# EAGLE library part 940-44-084-24-000000 (library SamacSys_Parts)
MILL MAX - 940-44-084-24-000000 - PLCC SOCKET, 84 POSITION, THROUGH HOLE VERTICAL Source: Datasheet <https://www.mill-max.com/products/datasheet/sockets/940-44-084-24-000000>
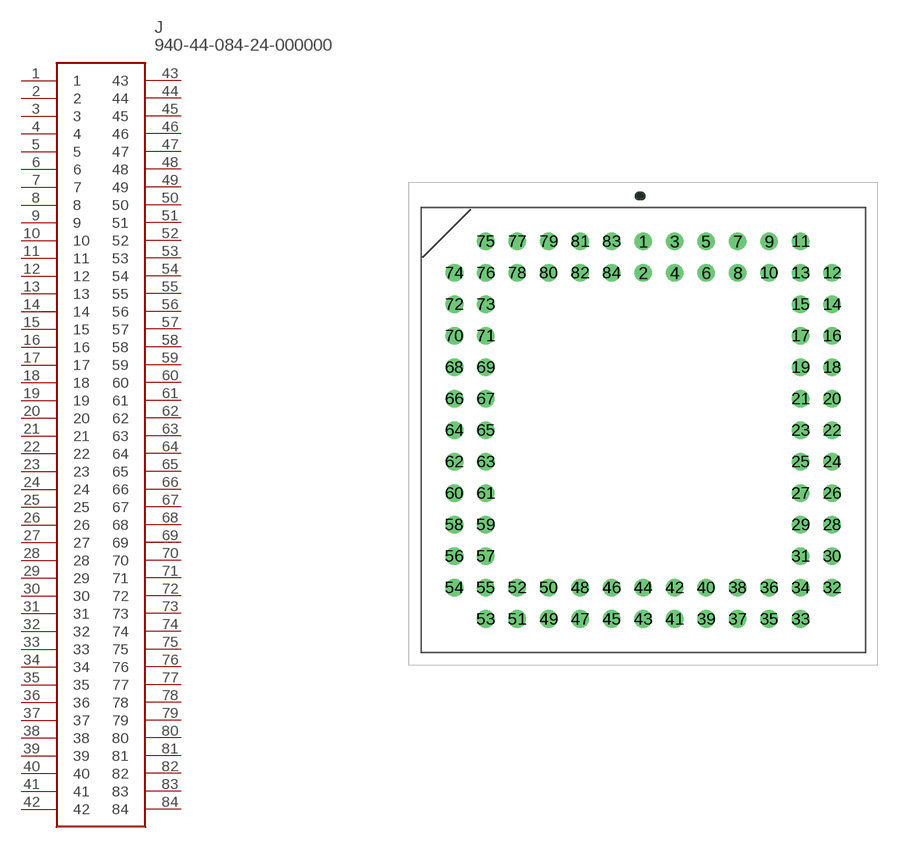
[diagram p200: symbol with the pads of 9404408424000000; footprint 9404408424000000]

Designator prefix J

## 940-44-084-24-000000 (DESCRIPTION: MILL MAX - 940-44-084-24-000000 - PLCC SOCKET, 84 POSITION, THROUGH HOLE VERTICAL; HEIGHT: 8.255mm; MANUFACTURER_NAME: Mill-Max; MANUFACTURER_PART_NUMBER: 940-44-084-24-000000; MOUSER_PART_NUMBER: 575-948424; MOUSER_PRICE-STOCK: https://www.mouser.co.uk/ProductDetail/Mill-Max/940-44-084-24-000000?qs=kJUkXSjFC7xDiE1179Hraw%3D%3D)  [9404408424000000]
1  1
2  2
3  3
4  4
5  5
6  6
7  7
8  8
9  9
10  10
11  11
12  12
13  13
14  14
15  15
16  16
17  17
18  18
19  19
20  20
21  21
22  22
23  23
24  24
25  25
26  26
27  27
28  28
29  29
30  30
31  31
32  32
33  33
34  34
35  35
36  36
37  37
38  38
39  39
40  40
41  41
42  42
43  43
44  44
45  45
46  46
47  47
48  48
49  49
50  50
51  51
52  52
53  53
54  54
55  55
56  56
57  57
58  58
59  59
60  60
61  61
62  62
63  63
64  64
65  65
66  66
67  67
68  68
69  69
70  70
71  71
72  72
73  73
74  74
75  75
76  76
77  77
78  78
79  79
80  80
81  81
82  82
83  83
84  84

## Footprint 9404408424000000 (pad centres in mm)
940-44-084-24-000000-1
drill 0.889 pad 1.445: 1 0,0; 2 0,-2.54; 3 2.54,0; 4 2.54,-2.54; 5 5.08,0; 6 5.08,-2.54; 7 7.62,0; 8 7.62,-2.54; 9 10.16,0; 10 10.16,-2.54; 11 12.7,0; 12 15.24,-2.54; 13 12.7,-2.54; 14 15.24,-5.08; 15 12.7,-5.08; 16 15.24,-7.62; 17 12.7,-7.62; 18 15.24,-10.16; 19 12.7,-10.16; 20 15.24,-12.7; 21 12.7,-12.7; 22 15.24,-15.24; 23 12.7,-15.24; 24 15.24,-17.78; 25 12.7,-17.78; 26 15.24,-20.32; 27 12.7,-20.32; 28 15.24,-22.86; 29 12.7,-22.86; 30 15.24,-25.4; 31 12.7,-25.4; 32 15.24,-27.94; 33 12.7,-30.48; 34 12.7,-27.94; 35 10.16,-30.48; 36 10.16,-27.94; 37 7.62,-30.48; 38 7.62,-27.94; 39 5.08,-30.48; 40 5.08,-27.94; 41 2.54,-30.48; 42 2.54,-27.94; 43 0,-30.48; 44 0,-27.94; 45 -2.54,-30.48; 46 -2.54,-27.94; 47 -5.08,-30.48; 48 -5.08,-27.94; 49 -7.62,-30.48; 50 -7.62,-27.94; 51 -10.16,-30.48; 52 -10.16,-27.94; 53 -12.7,-30.48; 54 -15.24,-27.94; 55 -12.7,-27.94; 56 -15.24,-25.4; 57 -12.7,-25.4; 58 -15.24,-22.86; 59 -12.7,-22.86; 60 -15.24,-20.32; 61 -12.7,-20.32; 62 -15.24,-17.78; 63 -12.7,-17.78; 64 -15.24,-15.24; 65 -12.7,-15.24; 66 -15.24,-12.7; 67 -12.7,-12.7; 68 -15.24,-10.16; 69 -12.7,-10.16; 70 -15.24,-7.62; 71 -12.7,-7.62; 72 -15.24,-5.08; 73 -12.7,-5.08; 74 -15.24,-2.54; 75 -12.7,0; 76 -12.7,-2.54; 77 -10.16,0; 78 -10.16,-2.54; 79 -7.62,0; 80 -7.62,-2.54; 81 -5.08,0; 82 -5.08,-2.54; 83 -2.54,0; 84 -2.54,-2.54